# Altium footprint library SOP8.PcbLib: 1 footprints
Each footprint in its own frame and in the unit in brackets; x right, y up, seen from the top. Pads: shape width x height; smd on the part's side, far side on the other; paste and mask are expansions set on the pad; w line width, h text height; cw(c..) or ccw(c..) is an arc to the next point about the centre after c.
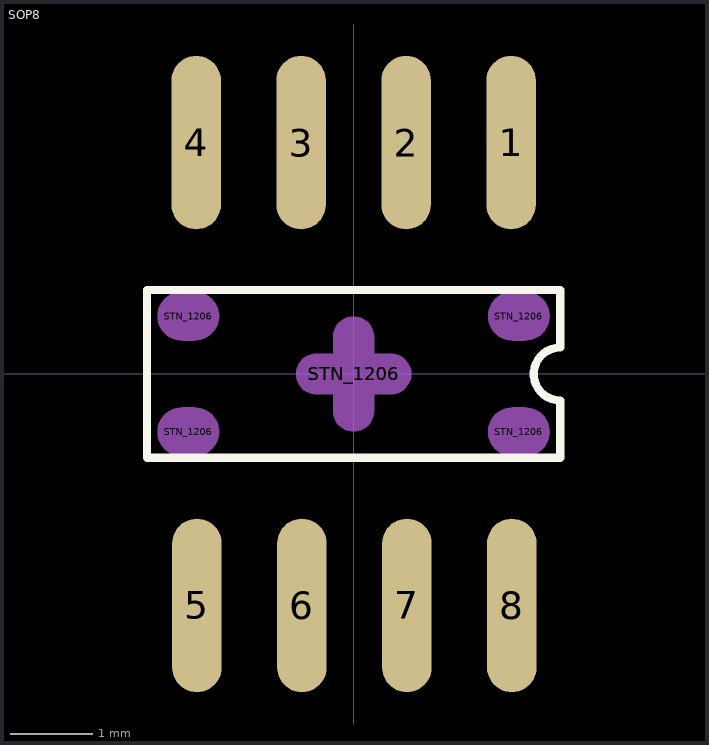
[diagram p0: the footprint, top view; thin cyan lines are the x and y axes]

## SOP8 [mm]
height 0.94
pads (14):
  oval 0.6x2.1 smd: 1(1.905,2.8) 2(0.635,2.8) 3(-0.635,2.8) 4(-1.905,2.8) 5(-1.896,-2.8) 6(-0.626,-2.8) 7(0.644,-2.8) 8(1.914,-2.8)
  oval 0.75x0.6 on Mech2 mask+0: STN_1206(-2,-0.7) STN_1206(-2,0.7) STN_1206(2,-0.7) STN_1206(2,0.7)
  oval 0.5x1.4 on Mech2 mask+0: STN_1206(0,0)
  oval 1.4x0.5 on Mech2 mask+0: STN_1206(0,0)
Top Overlay:
  lines w0.1: -2.5,-1.015 2.5,-1.015 2.5,-0.32 cw(c2.5,0) 2.5,0.32 2.5,1.015 -2.5,1.015 -2.5,-1.015
3D body "soic8_p1-27_l5-0_w4-0.stp": height 1.9, standoff 0, extent -2.5,-3.1 2.5,3.1